# Altium footprint library ESP32.PcbLib: 11 footprints
Each footprint in its own frame and in the unit in brackets; x right, y up, seen from the top. Pads: shape width x height; smd on the part's side, far side on the other; paste and mask are expansions set on the pad; w line width, h text height; cw(c..) or ccw(c..) is an arc to the next point about the centre after c.
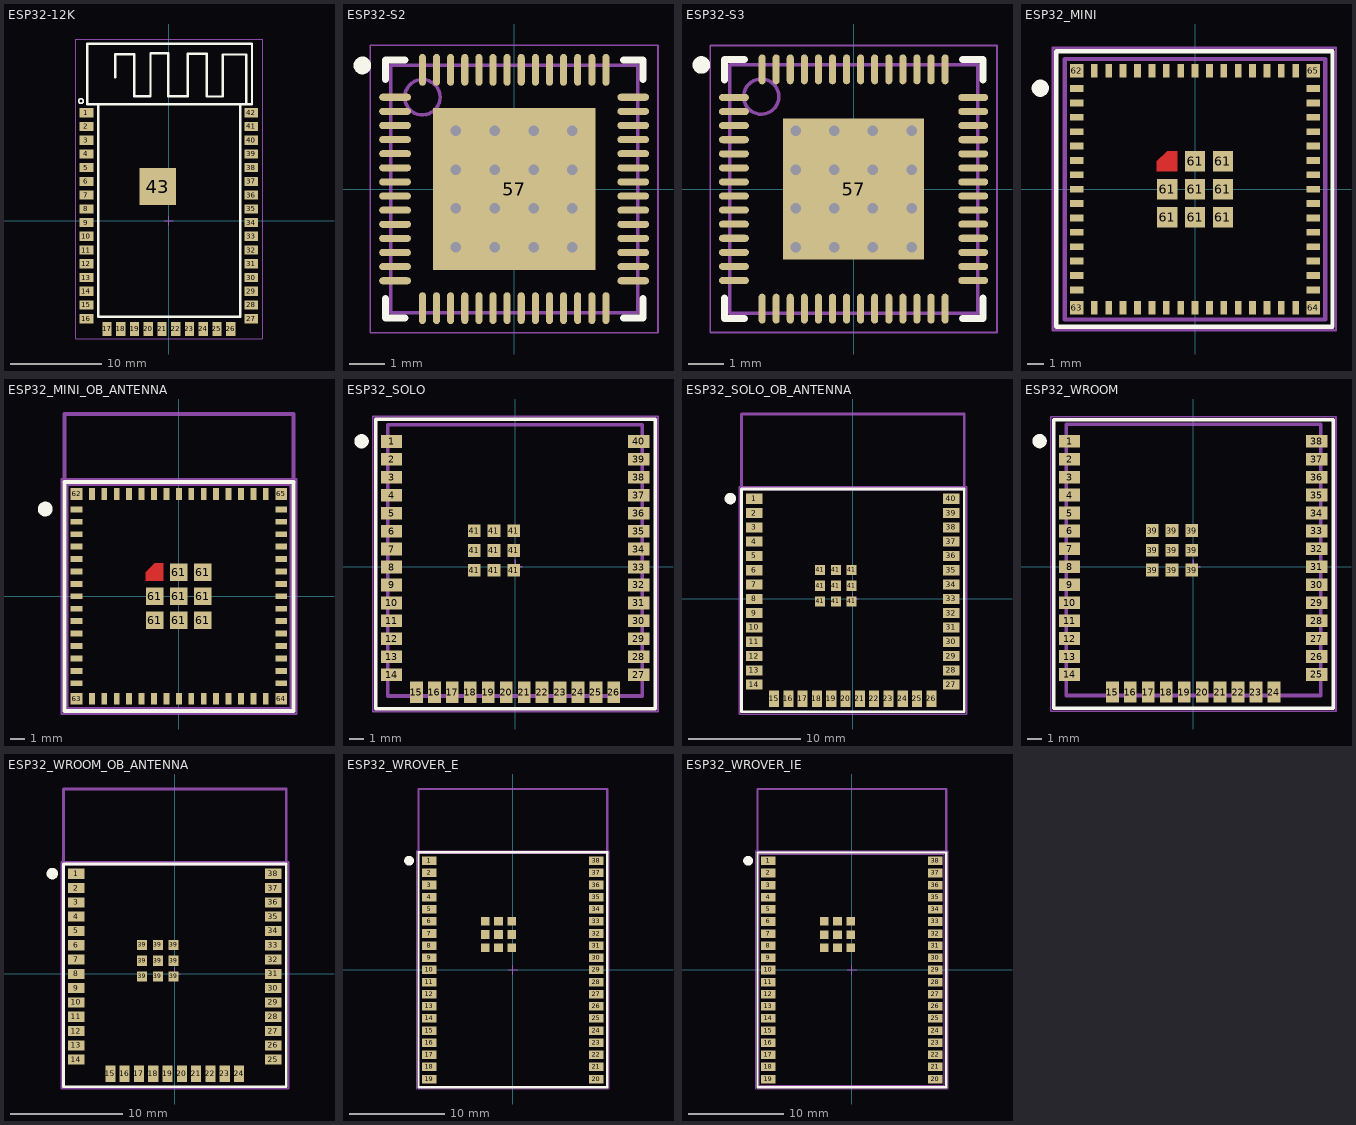
[diagram p0: the footprints below, top view; thin cyan lines are the x and y axes]

## ESP32-12K [mm] "Chip Array, Concave, 41-Leads, Pitch 1.50mm,  Body 31.00x18.00mm,  IPC Medium Density"
height 2
pads (43):
  rect 1.5x1 smd: 1(-9,11.811) 2(-9,10.311) 3(-9,8.811) 4(-9,7.311) 5(-9,5.811) 6(-9,4.311) 7(-9,2.811) 8(-9,1.311) 9(-9,-0.189) 10(-9,-1.689) 11(-9,-3.189) 12(-9,-4.689) 13(-9,-6.189) 14(-9,-7.689) 15(-9,-9.189) 16(-9,-10.689) 27(9,-10.689) 28(9,-9.189) 29(9,-7.689) 30(9,-6.189) 31(9,-4.689) 32(9,-3.189) 33(9,-1.689) 34(9,-0.189) 35(9,1.311) 36(9,2.811) 37(9,4.311) 38(9,5.811) 39(9,7.311) 40(9,8.811) 41(9,10.311) 42(9,11.811)
  rect 1x1.5 smd: 17(-6.75,-11.811) 18(-5.25,-11.811) 19(-3.75,-11.811) 20(-2.25,-11.811) 21(-0.75,-11.811) 22(0.75,-11.811) 23(2.25,-11.811) 24(3.75,-11.811) 25(5.25,-11.811) 26(6.75,-11.811)
  rect 4x4 smd: 43(-1.2,3.75)
Top Overlay:
  circle w0.2: c-9.6,13.086 r0.25
  lines w0.254: -5.85,15.661 -5.85,18.211 -5.8,18.211 -3.8,18.211 -3.8,13.611 -2,13.611 -2,18.311 -0.075,18.311 -0.075,13.611 2.05,13.611 2.05,18.261 4.125,18.261 4.125,13.586 5.875,13.586 5.875,18.161 8.45,18.161 8.45,12.736 ; -7.7,12.736 -8.9,12.736 -8.9,19.361 9.075,19.361 9.075,12.736 7.8,12.736 ; -7.7,12.736 -7.7,-10.464 7.8,-10.464 7.8,12.736 ; -7.7,12.736 7.8,12.736
Top Designator:
  text ".Designator" at -5.998,-0.4 h1.2
Mechanical 13:
  lines w0.1: -9.083,-10.958 ccw(c-9.083,-10.683) -9.083,-10.408 ; -9.083,-9.458 ccw(c-9.083,-9.183) -9.083,-8.908 ; -9.083,-7.958 ccw(c-9.083,-7.683) -9.083,-7.408 ; -9.083,-6.458 ccw(c-9.083,-6.183) -9.083,-5.908 ; -9.083,-4.958 ccw(c-9.083,-4.683) -9.083,-4.408 ; -9.083,-3.458 ccw(c-9.083,-3.183) -9.083,-2.908 ; -9.083,-1.958 ccw(c-9.083,-1.683) -9.083,-1.408 ; -9.083,-0.458 ccw(c-9.083,-0.183) -9.083,0.092 ; -9.083,1.042 ccw(c-9.083,1.317) -9.083,1.592 ; -9.083,2.542 ccw(c-9.083,2.817) -9.083,3.092 ; -9.083,4.042 ccw(c-9.083,4.317) -9.083,4.592 ; -9.083,5.542 ccw(c-9.083,5.817) -9.083,6.092 ; -9.083,7.042 ccw(c-9.083,7.317) -9.083,7.592 ; -9.083,8.542 ccw(c-9.083,8.817) -9.083,9.092 ; -9.083,10.042 ccw(c-9.083,10.317) -9.083,10.592 ; -9.083,11.542 ccw(c-9.083,11.817) -9.083,12.092 ; 9.117,-10.958 cw(c9.117,-10.683) 9.117,-10.408 ; 9.117,-9.458 cw(c9.117,-9.183) 9.117,-8.908 ; 9.117,-7.958 cw(c9.117,-7.683) 9.117,-7.408 ; 9.117,-6.458 cw(c9.117,-6.183) 9.117,-5.908 ; 9.117,-4.958 cw(c9.117,-4.683) 9.117,-4.408 ; 9.117,-3.458 cw(c9.117,-3.183) 9.117,-2.908 ; 9.117,-1.958 cw(c9.117,-1.683) 9.117,-1.408 ; 9.117,-0.458 cw(c9.117,-0.183) 9.117,0.092 ; 9.117,1.042 cw(c9.117,1.317) 9.117,1.592 ; 9.117,2.542 cw(c9.117,2.817) 9.117,3.092 ; 9.117,4.042 cw(c9.117,4.317) 9.117,4.592 ; 9.117,5.542 cw(c9.117,5.817) 9.117,6.092 ; 9.117,7.042 cw(c9.117,7.317) 9.117,7.592 ; 9.117,8.542 cw(c9.117,8.817) 9.117,9.092 ; 9.117,10.042 cw(c9.117,10.317) 9.117,10.592 ; 9.117,11.542 cw(c9.117,11.817) 9.117,12.092
Mechanical 15:
  lines w0.05: -10.16,-12.903 -10.16,19.863 10.185,19.863 10.185,-12.903 -10.16,-12.903
  lines w0.1: -0.5,0 0.5,0 ; 0,-0.5 0,0.5
3D body "ESP32-S2-WROOM--3DModel-STEP-418109.STEP": height 3.45, standoff 0, extent -9,-11.7 9,19.3

## ESP32-S2 [mm] "QFN, 56-Leads, Body 7.00x7.00mm, Pitch 0.40mm, Thermal Pad 4.60x4.60mm, IPC Medium Density"
height 0.9
pads (57):
  oval 0.9x0.2 smd: 1(-3.375,2.6) 2(-3.375,2.2) 3(-3.375,1.8) 4(-3.375,1.4) 5(-3.375,1) 6(-3.375,0.6) 7(-3.375,0.2) 8(-3.375,-0.2) 9(-3.375,-0.6) 10(-3.375,-1) 11(-3.375,-1.4) 12(-3.375,-1.8) 13(-3.375,-2.2) 14(-3.375,-2.6) 29(3.375,-2.6) 30(3.375,-2.2) 31(3.375,-1.8) 32(3.375,-1.4) 33(3.375,-1) 34(3.375,-0.6) 35(3.375,-0.2) 36(3.375,0.2) 37(3.375,0.6) 38(3.375,1) 39(3.375,1.4) 40(3.375,1.8) 41(3.375,2.2) 42(3.375,2.6)
  oval 0.2x0.9 smd: 15(-2.6,-3.375) 16(-2.2,-3.375) 17(-1.8,-3.375) 18(-1.4,-3.375) 19(-1,-3.375) 20(-0.6,-3.375) 21(-0.2,-3.375) 22(0.2,-3.375) 23(0.6,-3.375) 24(1,-3.375) 25(1.4,-3.375) 26(1.8,-3.375) 27(2.2,-3.375) 28(2.6,-3.375) 43(2.6,3.375) 44(2.2,3.375) 45(1.8,3.375) 46(1.4,3.375) 47(1,3.375) 48(0.6,3.375) 49(0.2,3.375) 50(-0.2,3.375) 51(-0.6,3.375) 52(-1,3.375) 53(-1.4,3.375) 54(-1.8,3.375) 55(-2.2,3.375) 56(-2.6,3.375)
  rect 4.6x4.6 smd: 57(0,0)
via 1.65,-1.65 diameter 0.5 hole 0.3
via 0.55,-1.65 diameter 0.5 hole 0.3
via -0.55,-1.65 diameter 0.5 hole 0.3
via -1.65,-1.65 diameter 0.5 hole 0.3
via 1.65,-0.55 diameter 0.5 hole 0.3
via 0.55,-0.55 diameter 0.5 hole 0.3
via -0.55,-0.55 diameter 0.5 hole 0.3
via -1.65,-0.55 diameter 0.5 hole 0.3
via 1.65,0.55 diameter 0.5 hole 0.3
via 0.55,0.55 diameter 0.5 hole 0.3
via -0.55,0.55 diameter 0.5 hole 0.3
via -1.65,0.55 diameter 0.5 hole 0.3
via 1.65,1.65 diameter 0.5 hole 0.3
via 0.55,1.65 diameter 0.5 hole 0.3
via -0.55,1.65 diameter 0.5 hole 0.3
via -1.65,1.65 diameter 0.5 hole 0.3
Top Overlay:
  circle w0.25: c-4.3,3.5 r0.125
  lines w0.2: -3.65,-3.1 -3.65,-3.65 -3.1,-3.65 ; -3.65,3.1 -3.65,3.65 -3.1,3.65 ; 3.1,-3.65 3.65,-3.65 3.65,-3.1 ; 3.1,3.65 3.65,3.65 3.65,3.1
Top Designator:
  text ".Designator" at -5.998,-0.4 h1.2
Mechanical 13:
  circle w0.1: c-2.6,2.6 r0.5
  lines w0.1: -3.5,-3.5 3.5,-3.5 3.5,3.5 -3.5,3.5 -3.5,-3.5
Mechanical 15:
  lines w0.05: -4.075,-4.075 4.075,-4.075 4.075,4.075 -4.075,4.075 -4.075,-4.075
  lines w0.1: -0.5,0 0.5,0 ; 0,-0.5 0,0.5
3D body "QFN40P700X700X90_HS-57N.step": height 0.9, standoff 0, extent -3.501,-3.501 3.501,3.501

## ESP32-S3 [mm] "QFN, 56-Leads, Body 7.00x7.00mm, Pitch 0.40mm, Thermal Pad 4.00x4.00mm, IPC Medium Density"
height 0.9
pads (57):
  oval 0.85x0.2 smd: 1(-3.4,2.6) 2(-3.4,2.2) 3(-3.4,1.8) 4(-3.4,1.4) 5(-3.4,1) 6(-3.4,0.6) 7(-3.4,0.2) 8(-3.4,-0.2) 9(-3.4,-0.6) 10(-3.4,-1) 11(-3.4,-1.4) 12(-3.4,-1.8) 13(-3.4,-2.2) 14(-3.4,-2.6) 29(3.4,-2.6) 30(3.4,-2.2) 31(3.4,-1.8) 32(3.4,-1.4) 33(3.4,-1) 34(3.4,-0.6) 35(3.4,-0.2) 36(3.4,0.2) 37(3.4,0.6) 38(3.4,1) 39(3.4,1.4) 40(3.4,1.8) 41(3.4,2.2) 42(3.4,2.6)
  oval 0.2x0.85 smd: 15(-2.6,-3.4) 16(-2.2,-3.4) 17(-1.8,-3.4) 18(-1.4,-3.4) 19(-1,-3.4) 20(-0.6,-3.4) 21(-0.2,-3.4) 22(0.2,-3.4) 23(0.6,-3.4) 24(1,-3.4) 25(1.4,-3.4) 26(1.8,-3.4) 27(2.2,-3.4) 28(2.6,-3.4) 43(2.6,3.4) 44(2.2,3.4) 45(1.8,3.4) 46(1.4,3.4) 47(1,3.4) 48(0.6,3.4) 49(0.2,3.4) 50(-0.2,3.4) 51(-0.6,3.4) 52(-1,3.4) 53(-1.4,3.4) 54(-1.8,3.4) 55(-2.2,3.4) 56(-2.6,3.4)
  rect 4x4 smd: 57(0,0)
via 1.65,-1.65 diameter 0.5 hole 0.3
via 0.55,-1.65 diameter 0.5 hole 0.3
via -0.55,-1.65 diameter 0.5 hole 0.3
via -1.65,-1.65 diameter 0.5 hole 0.3
via 1.65,-0.55 diameter 0.5 hole 0.3
via 0.55,-0.55 diameter 0.5 hole 0.3
via -0.55,-0.55 diameter 0.5 hole 0.3
via -1.65,-0.55 diameter 0.5 hole 0.3
via 1.65,0.55 diameter 0.5 hole 0.3
via 0.55,0.55 diameter 0.5 hole 0.3
via -0.55,0.55 diameter 0.5 hole 0.3
via -1.65,0.55 diameter 0.5 hole 0.3
via 1.65,1.65 diameter 0.5 hole 0.3
via 0.55,1.65 diameter 0.5 hole 0.3
via -0.55,1.65 diameter 0.5 hole 0.3
via -1.65,1.65 diameter 0.5 hole 0.3
Top Overlay:
  circle w0.25: c-4.325,3.525 r0.125
  lines w0.2: -3.675,-3.1 -3.675,-3.675 -3.1,-3.675 ; -3.675,3.1 -3.675,3.675 -3.1,3.675 ; 3.1,-3.675 3.675,-3.675 3.675,-3.1 ; 3.1,3.675 3.675,3.675 3.675,3.1
Top Designator:
  text ".Designator" at -5.998,-0.4 h1.2
Mechanical 13:
  circle w0.1: c-2.625,2.625 r0.5
  lines w0.1: -3.525,-3.525 3.525,-3.525 3.525,3.525 -3.525,3.525 -3.525,-3.525
Mechanical 15:
  lines w0.05: -4.075,-4.075 4.075,-4.075 4.075,4.075 -4.075,4.075 -4.075,-4.075
  lines w0.1: -0.5,0 0.5,0 ; 0,-0.5 0,0.5
3D body "QFN40P700X700X90_HS-57N.step": height 0.9, standoff 0, extent -3.526,-3.526 3.526,3.526

## ESP32_MINI [mm]
pads (73):
  rect 0.8x0.4 smd: 1(-7,5.95) 2(-7,5.1) 3(-7,4.25) 4(-7,3.4) 5(-7,2.55) 6(-7,1.7) 7(-7,0.85) 8(-7,0) 9(-7,-0.85) 10(-7,-1.7) 11(-7,-2.55) 12(-7,-3.4) 13(-7,-4.25) 14(-7,-5.1) 15(-7,-5.95) 31(7,-5.95) 32(7,-5.1) 33(7,-4.25) 34(7,-3.4) 35(7,-2.55) 36(7,-1.7) 37(7,-0.85) 38(7,0) 39(7,0.85) 40(7,1.7) 41(7,2.55) 42(7,3.4) 43(7,4.25) 44(7,5.1) 45(7,5.95)
  rect 0.4x0.8 smd: 16(-5.95,-7) 17(-5.1,-7) 18(-4.25,-7) 19(-3.4,-7) 20(-2.55,-7) 21(-1.7,-7) 22(-0.85,-7) 23(0,-7) 24(0.85,-7) 25(1.7,-7) 26(2.55,-7) 27(3.4,-7) 28(4.25,-7) 29(5.1,-7) 30(5.95,-7) 46(5.95,7) 47(5.1,7) 48(4.25,7) 49(3.4,7) 50(2.55,7) 51(1.7,7) 52(0.85,7) 53(0,7) 54(-0.85,7) 55(-1.7,7) 56(-2.55,7) 57(-3.4,7) 58(-4.25,7) 59(-5.1,7) 60(-5.95,7)
  rect 1.2x1.2 smd: 61(-1.65,-1.65) 61(-1.65,0) 61(0,-1.65) 61(0,0) 61(0,1.65) 61(1.65,-1.65) 61(1.65,0) 61(1.65,1.65)
  round 0.025 smd: 61(-1.65,1.65)
  rect 0.8x0.8 smd: 62(-7,7) 63(-7,-7) 64(7,-7) 65(7,7)
Top Layer:
  region: -1.65,2.25 -2.25,1.65 -2.25,1.05 -1.05,1.05 -1.05,2.25
Top Overlay:
  circle w0.508: c-9.144,5.969 r0.254
  lines w0.254: -8.204,-8.128 8.128,-8.128 8.128,8.153 -8.204,8.153 -8.204,-8.128
Mechanical 1:
  lines w0.254: -7.696,-7.696 7.696,-7.696 7.696,7.696 -7.696,7.696 -7.696,-7.696
Top Designator:
  text ".Designator" at -5.998,-0.476 h1.2
Mechanical 15:
  lines w0.127: -8.407,-8.331 -8.407,8.357 8.331,8.357 8.331,-8.331 -8.407,-8.331
3D body "ESP32-S2-MINI-1U 3D Model.STEP": height 2.4, standoff 0, extent -7.7,-7.706 7.7,7.694

## ESP32_MINI_OB_ANTENNA [mm]
pads (73):
  rect 0.8x0.4 smd: 1(-7,5.95) 2(-7,5.1) 3(-7,4.25) 4(-7,3.4) 5(-7,2.55) 6(-7,1.7) 7(-7,0.85) 8(-7,0) 9(-7,-0.85) 10(-7,-1.7) 11(-7,-2.55) 12(-7,-3.4) 13(-7,-4.25) 14(-7,-5.1) 15(-7,-5.95) 31(7,-5.95) 32(7,-5.1) 33(7,-4.25) 34(7,-3.4) 35(7,-2.55) 36(7,-1.7) 37(7,-0.85) 38(7,0) 39(7,0.85) 40(7,1.7) 41(7,2.55) 42(7,3.4) 43(7,4.25) 44(7,5.1) 45(7,5.95)
  rect 0.4x0.8 smd: 16(-5.95,-7) 17(-5.1,-7) 18(-4.25,-7) 19(-3.4,-7) 20(-2.55,-7) 21(-1.7,-7) 22(-0.85,-7) 23(0,-7) 24(0.85,-7) 25(1.7,-7) 26(2.55,-7) 27(3.4,-7) 28(4.25,-7) 29(5.1,-7) 30(5.95,-7) 46(5.95,7) 47(5.1,7) 48(4.25,7) 49(3.4,7) 50(2.55,7) 51(1.7,7) 52(0.85,7) 53(0,7) 54(-0.85,7) 55(-1.7,7) 56(-2.55,7) 57(-3.4,7) 58(-4.25,7) 59(-5.1,7) 60(-5.95,7)
  rect 1.2x1.2 smd: 61(-1.65,-1.65) 61(-1.65,0) 61(0,-1.65) 61(0,0) 61(0,1.65) 61(1.65,-1.65) 61(1.65,0) 61(1.65,1.65)
  round 0.025 smd: 61(-1.65,1.65)
  rect 0.8x0.8 smd: 62(-7,7) 63(-7,-7) 64(7,-7) 65(7,7)
Top Layer:
  region: -1.65,2.25 -2.25,1.65 -2.25,1.05 -1.05,1.05 -1.05,2.25
Top Overlay:
  circle w0.508: c-9.144,5.969 r0.254
  lines w0.254: -7.823,-7.849 7.849,-7.849 7.849,7.823 -7.823,7.823 -7.823,-7.849
Top Designator:
  text ".Designator" at -5.998,-0.4 h1.2
Mechanical 13:
  lines w0.254: -7.823,7.823 -7.823,12.471 7.849,12.471 7.849,7.823 -7.823,7.823
  text "CUTOUT" at -4.317,9.322 h1.52
Mechanical 15:
  lines w0.1: -0.5,0 0.5,0 ; 0,-0.5 0,0.5
  lines w0.127: -8.026,-8.052 8.052,-8.052 8.052,8.026 -8.026,8.026 -8.026,-8.052 ; -7.62,-7.645 7.645,-7.645 7.645,7.62 -7.62,7.62 -7.62,-7.645
3D body "ESP32-S2-MINI-1 3D Model.STEP": height 2.4, standoff 0, extent -7.69,-7.711 7.71,12.289

## ESP32_SOLO [mm]
pads (49):
  rect 1.5x0.9 smd: 1(-8.75,8.88) 2(-8.75,7.61) 3(-8.75,6.34) 4(-8.75,5.07) 5(-8.75,3.8) 6(-8.75,2.53) 7(-8.75,1.26) 8(-8.75,-0.01) 9(-8.75,-1.28) 10(-8.75,-2.55) 11(-8.75,-3.82) 12(-8.75,-5.09) 13(-8.75,-6.36) 14(-8.75,-7.63) 27(8.75,-7.63) 28(8.75,-6.36) 29(8.75,-5.09) 30(8.75,-3.82) 31(8.75,-2.55) 32(8.75,-1.28) 33(8.75,-0.01) 34(8.75,1.26) 35(8.75,2.53) 36(8.75,3.8) 37(8.75,5.07) 38(8.75,6.34) 39(8.75,7.61) 40(8.75,8.88)
  rect 0.9x1.5 smd: 15(-6.985,-8.88) 16(-5.715,-8.88) 17(-4.445,-8.88) 18(-3.175,-8.88) 19(-1.905,-8.88) 20(-0.635,-8.88) 21(0.635,-8.88) 22(1.905,-8.88) 23(3.175,-8.88) 24(4.445,-8.88) 25(5.715,-8.88) 26(6.985,-8.88)
  rect 0.9x0.9 smd: 41(-2.9,-0.24) 41(-2.9,1.16) 41(-2.9,2.56) 41(-1.5,-0.24) 41(-1.5,1.16) 41(-1.5,2.56) 41(-0.1,-0.24) 41(-0.1,1.16) 41(-0.1,2.56)
Top Overlay:
  circle w0.508: c-10.871,8.89 r0.254
  lines w0.254: -9.881,-10.033 9.906,-10.033 9.906,10.439 -9.881,10.439 -9.881,-10.033
Mechanical 1:
  lines w0.254: -9.017,-9.138 -9.017,10.058 8.992,10.058 8.992,-9.138 -9.017,-9.138
Top Designator:
  text ".Designator" at -5.998,-0.425 h1.2
Mechanical 15:
  lines w0.1: -0.5,0 0.5,0 ; 0,-0.5 0,0.5
  lines w0.127: -10.084,-10.236 -10.084,-9.423 -10.084,10.643 10.109,10.643 10.109,-10.236 -10.084,-10.236
3D body "ESP32-S2-SOLO-U 3D Model.STEP": height 3.2, standoff 0, extent -9.008,-9.142 8.992,10.058

## ESP32_SOLO_OB_ANTENNA [mm]
pads (49):
  rect 1.5x0.9 smd: 1(-8.75,8.88) 2(-8.75,7.61) 3(-8.75,6.34) 4(-8.75,5.07) 5(-8.75,3.8) 6(-8.75,2.53) 7(-8.75,1.26) 8(-8.75,-0.01) 9(-8.75,-1.28) 10(-8.75,-2.55) 11(-8.75,-3.82) 12(-8.75,-5.09) 13(-8.75,-6.36) 14(-8.75,-7.63) 27(8.75,-7.63) 28(8.75,-6.36) 29(8.75,-5.09) 30(8.75,-3.82) 31(8.75,-2.55) 32(8.75,-1.28) 33(8.75,-0.01) 34(8.75,1.26) 35(8.75,2.53) 36(8.75,3.8) 37(8.75,5.07) 38(8.75,6.34) 39(8.75,7.61) 40(8.75,8.88)
  rect 0.9x1.5 smd: 15(-6.985,-8.88) 16(-5.715,-8.88) 17(-4.445,-8.88) 18(-3.175,-8.88) 19(-1.905,-8.88) 20(-0.635,-8.88) 21(0.635,-8.88) 22(1.905,-8.88) 23(3.175,-8.88) 24(4.445,-8.88) 25(5.715,-8.88) 26(6.985,-8.88)
  rect 0.9x0.9 smd: 41(-2.9,-0.24) 41(-2.9,1.16) 41(-2.9,2.56) 41(-1.5,-0.24) 41(-1.5,1.16) 41(-1.5,2.56) 41(-0.1,-0.24) 41(-0.1,1.16) 41(-0.1,2.56)
Top Overlay:
  circle w0.508: c-10.871,8.89 r0.254
  lines w0.254: -9.881,-10.033 -9.881,9.754 9.906,9.754 9.906,-10.033 -9.881,-10.033
Top Designator:
  text ".Designator" at -5.998,-0.4 h1.2
Mechanical 13:
  lines w0.254: -9.881,9.754 -9.881,16.408 9.906,16.408 9.906,9.754 -9.881,9.754
  text "CUTOUT" at -4.317,12.294 h1.52
Mechanical 15:
  lines w0.1: -0.5,0 0.5,0 ; 0,-0.5 0,0.5
  lines w0.127: -10.084,-10.236 -10.084,-9.423 -10.084,9.957 10.109,9.957 10.109,-10.236 -10.084,-10.236
3D body "ESP32-S2-SOLO 3D Model.STEP": height 3.1, standoff 0, extent -9.004,-9.129 8.996,16.371

## ESP32_WROOM [mm]
pads (47):
  rect 1.5x0.9 smd: 1(-8.75,8.88) 2(-8.75,7.61) 3(-8.75,6.34) 4(-8.75,5.07) 5(-8.75,3.8) 6(-8.75,2.53) 7(-8.75,1.26) 8(-8.75,-0.01) 9(-8.75,-1.28) 10(-8.75,-2.55) 11(-8.75,-3.82) 12(-8.75,-5.09) 13(-8.75,-6.36) 14(-8.75,-7.63) 25(8.75,-7.63) 26(8.75,-6.36) 27(8.75,-5.09) 28(8.75,-3.82) 29(8.75,-2.55) 30(8.75,-1.28) 31(8.75,-0.01) 32(8.75,1.26) 33(8.75,2.53) 34(8.75,3.8) 35(8.75,5.07) 36(8.75,6.34) 37(8.75,7.61) 38(8.75,8.88)
  rect 0.9x1.5 smd: 15(-5.715,-8.88) 16(-4.445,-8.88) 17(-3.175,-8.88) 18(-1.905,-8.88) 19(-0.635,-8.88) 20(0.635,-8.88) 21(1.905,-8.88) 22(3.175,-8.88) 23(4.445,-8.88) 24(5.715,-8.88)
  rect 0.9x0.9 smd: 39(-2.9,-0.24) 39(-2.9,1.16) 39(-2.9,2.56) 39(-1.5,-0.24) 39(-1.5,1.16) 39(-1.5,2.56) 39(-0.1,-0.24) 39(-0.1,1.16) 39(-0.1,2.56)
Top Overlay:
  circle w0.508: c-10.871,8.89 r0.254
  lines w0.254: -9.881,-10.033 9.906,-10.033 9.906,10.414 -9.881,10.414 -9.881,-10.033
Mechanical 1:
  lines w0.254: -8.992,-9.119 9.017,-9.119 9.017,10.084 -8.992,10.084 -8.992,-9.119
Top Designator:
  text ".Designator" at -6.023,-0.4 h1.2
Mechanical 15:
  lines w0.1: -0.5,0 0.5,0 ; 0,-0.5 0,0.5
  lines w0.127: -10.084,-10.236 -10.084,-9.423 -10.084,10.617 10.109,10.617 10.109,-10.236 -10.084,-10.236
3D body "ESP32-WROOM-32UE 3D Model.STEP": height 3.23, standoff 0.03, extent -8.992,-9.119 9.008,10.081

## ESP32_WROOM_OB_ANTENNA [mm]
pads (47):
  rect 1.5x0.9 smd: 1(-8.75,8.88) 2(-8.75,7.61) 3(-8.75,6.34) 4(-8.75,5.07) 5(-8.75,3.8) 6(-8.75,2.53) 7(-8.75,1.26) 8(-8.75,-0.01) 9(-8.75,-1.28) 10(-8.75,-2.55) 11(-8.75,-3.82) 12(-8.75,-5.09) 13(-8.75,-6.36) 14(-8.75,-7.63) 25(8.75,-7.63) 26(8.75,-6.36) 27(8.75,-5.09) 28(8.75,-3.82) 29(8.75,-2.55) 30(8.75,-1.28) 31(8.75,-0.01) 32(8.75,1.26) 33(8.75,2.53) 34(8.75,3.8) 35(8.75,5.07) 36(8.75,6.34) 37(8.75,7.61) 38(8.75,8.88)
  rect 0.9x1.5 smd: 15(-5.715,-8.88) 16(-4.445,-8.88) 17(-3.175,-8.88) 18(-1.905,-8.88) 19(-0.635,-8.88) 20(0.635,-8.88) 21(1.905,-8.88) 22(3.175,-8.88) 23(4.445,-8.88) 24(5.715,-8.88)
  rect 0.9x0.9 smd: 39(-2.9,-0.24) 39(-2.9,1.16) 39(-2.9,2.56) 39(-1.5,-0.24) 39(-1.5,1.16) 39(-1.5,2.56) 39(-0.1,-0.24) 39(-0.1,1.16) 39(-0.1,2.56)
Top Overlay:
  circle w0.508: c-10.871,8.89 r0.254
  lines w0.254: -9.881,-10.033 -9.881,9.754 9.906,9.754 9.906,-10.033 -9.881,-10.033
Top Designator:
  text ".Designator" at -5.998,-0.451 h1.2
Mechanical 13:
  lines w0.254: -9.881,9.754 -9.881,16.408 9.906,16.408 9.906,9.754 -9.881,9.754
  text "CUTOUT" at -4.317,12.294 h1.52
Mechanical 15:
  lines w0.1: -0.5,0 0.5,0 ; 0,-0.5 0,0.5
  lines w0.127: -10.084,-10.236 10.109,-10.236 10.109,9.957 -10.084,9.957 -10.084,-9.423 -10.084,-10.236
3D body "ESP32-WROOM-32E 3D Model.STEP": height 3.2, standoff 0.1, extent -9.017,-9.144 8.983,16.356

## ESP32_WROVER_E [mm]
pads (47):
  rect 1.5x0.9 smd: 1(-8.75,11.43) 2(-8.75,10.16) 3(-8.75,8.89) 4(-8.75,7.62) 5(-8.75,6.35) 6(-8.75,5.08) 7(-8.75,3.81) 8(-8.75,2.54) 9(-8.75,1.27) 10(-8.75,0) 11(-8.75,-1.27) 12(-8.75,-2.54) 13(-8.75,-3.81) 14(-8.75,-5.08) 15(-8.75,-6.35) 16(-8.75,-7.62) 17(-8.75,-8.89) 18(-8.75,-10.16) 19(-8.75,-11.43) 20(8.75,-11.43) 21(8.75,-10.16) 22(8.75,-8.89) 23(8.75,-7.62) 24(8.75,-6.35) 25(8.75,-5.08) 26(8.75,-3.81) 27(8.75,-2.54) 28(8.75,-1.27) 29(8.75,0) 30(8.75,1.27) 31(8.75,2.54) 32(8.75,3.81) 33(8.75,5.08) 34(8.75,6.35) 35(8.75,7.62) 36(8.75,8.89) 37(8.75,10.16) 38(8.75,11.43)
  rect 0.9x0.9 smd: 39(-2.9,2.31) 39(-2.9,3.71) 39(-2.9,5.11) 39(-1.5,2.31) 39(-1.5,3.71) 39(-1.5,5.11) 39(-0.1,2.31) 39(-0.1,3.71) 39(-0.1,5.11)
Top Overlay:
  circle w0.508: c-10.871,11.44 r0.254
  lines w0.254: -9.881,-12.268 -9.881,12.304 9.906,12.304 9.906,-12.268 -9.881,-12.268
Top Designator:
  text ".Designator" at -5.998,-0.4 h1.2
Mechanical 13:
  lines w0.254: -9.881,12.294 9.906,12.294 9.906,18.948 -9.881,18.948 -9.881,12.294
  text "CUTOUT" at -4.317,14.894 h1.52
Mechanical 15:
  lines w0.1: -0.5,0 0.5,0 ; 0,-0.5 0,0.5
  lines w0.127: -10.084,-12.471 10.109,-12.471 10.109,12.507 -10.084,12.507 -10.084,-6.873 -10.084,-12.471
3D body "ESP32-WROVER-E 3D Model.STEP": height 3.3, standoff 0, extent -8.915,-12.522 9.085,18.878

## ESP32_WROVER_IE [mm]
pads (47):
  rect 1.5x0.9 smd: 1(-8.75,11.43) 2(-8.75,10.16) 3(-8.75,8.89) 4(-8.75,7.62) 5(-8.75,6.35) 6(-8.75,5.08) 7(-8.75,3.81) 8(-8.75,2.54) 9(-8.75,1.27) 10(-8.75,0) 11(-8.75,-1.27) 12(-8.75,-2.54) 13(-8.75,-3.81) 14(-8.75,-5.08) 15(-8.75,-6.35) 16(-8.75,-7.62) 17(-8.75,-8.89) 18(-8.75,-10.16) 19(-8.75,-11.43) 20(8.75,-11.43) 21(8.75,-10.16) 22(8.75,-8.89) 23(8.75,-7.62) 24(8.75,-6.35) 25(8.75,-5.08) 26(8.75,-3.81) 27(8.75,-2.54) 28(8.75,-1.27) 29(8.75,0) 30(8.75,1.27) 31(8.75,2.54) 32(8.75,3.81) 33(8.75,5.08) 34(8.75,6.35) 35(8.75,7.62) 36(8.75,8.89) 37(8.75,10.16) 38(8.75,11.43)
  rect 0.9x0.9 smd: 39(-2.9,2.31) 39(-2.9,3.71) 39(-2.9,5.11) 39(-1.5,2.31) 39(-1.5,3.71) 39(-1.5,5.11) 39(-0.1,2.31) 39(-0.1,3.71) 39(-0.1,5.11)
Top Overlay:
  circle w0.508: c-10.871,11.44 r0.254
  lines w0.254: -9.881,-12.268 9.906,-12.268 9.906,12.304 -9.881,12.304 -9.881,-12.268
Top Designator:
  text ".Designator" at -5.998,-0.4 h1.2
Mechanical 13:
  lines w0.254: -9.881,12.304 9.906,12.304 9.906,18.958 -9.881,18.958 -9.881,12.304
  text "CUTOUT" at -4.317,14.844 h1.52
Mechanical 15:
  lines w0.1: -0.5,0 0.5,0 ; 0,-0.5 0,0.5
  lines w0.127: -10.084,-12.471 -10.084,-6.873 -10.084,12.507 10.109,12.507 10.109,-12.471 -10.084,-12.471 ; -9.677,-12.065 9.703,-12.065 9.703,12.1 -9.677,12.1 -9.677,-12.065
3D body "ESP32-WROVER-IE 3D Model.STEP": height 3.3, standoff 0, extent -8.941,-12.522 9.059,18.878